# EAGLE library part SL2.1A (library LARS_409_USBHUB)
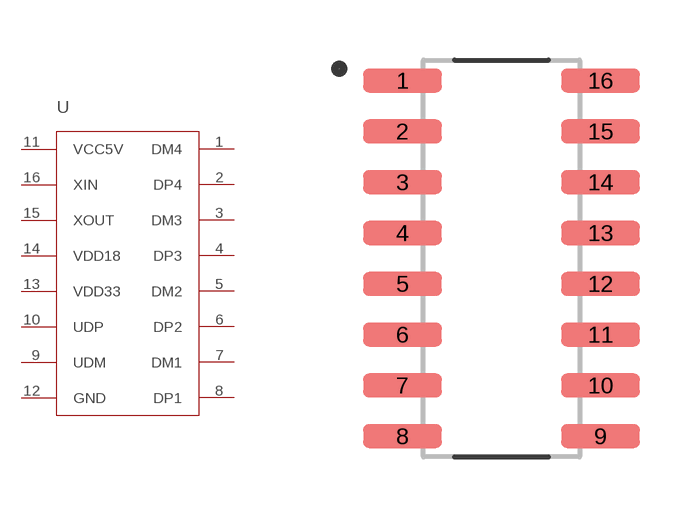
[diagram p0: symbol with the pads of SOIC-16; footprint SOIC-16]

Designator prefix U

## SL2.1A  [SOIC-16]
1  DM4
2  DP4
3  DM3
4  DP3
5  DM2
6  DP2
7  DM1
8  DP1
9  UDM
10  UDP
11  VCC5V
12  GND
13  VDD33
14  VDD18
15  XOUT
16  XIN

## Footprint SOIC-16 (pad centres in mm)
smd 1.97 x 0.6: 1 -2.475,4.445; 2 -2.475,3.175; 3 -2.475,1.905; 4 -2.475,0.635; 5 -2.475,-0.635; 6 -2.475,-1.905; 7 -2.475,-3.175; 8 -2.475,-4.445; 9 2.475,-4.445; 10 2.475,-3.175; 11 2.475,-1.905; 12 2.475,-0.635; 13 2.475,0.635; 14 2.475,1.905; 15 2.475,3.175; 16 2.475,4.445